# Altium footprint library PcbLib1.pcblib: 48 footprints (part 2 of 3)
Each footprint in its own frame and in the unit in brackets; x right, y up, seen from the top. Pads: shape width x height; smd on the part's side, far side on the other; paste and mask are expansions set on the pad; w line width, h text height; cw(c..) or ccw(c..) is an arc to the next point about the centre after c.
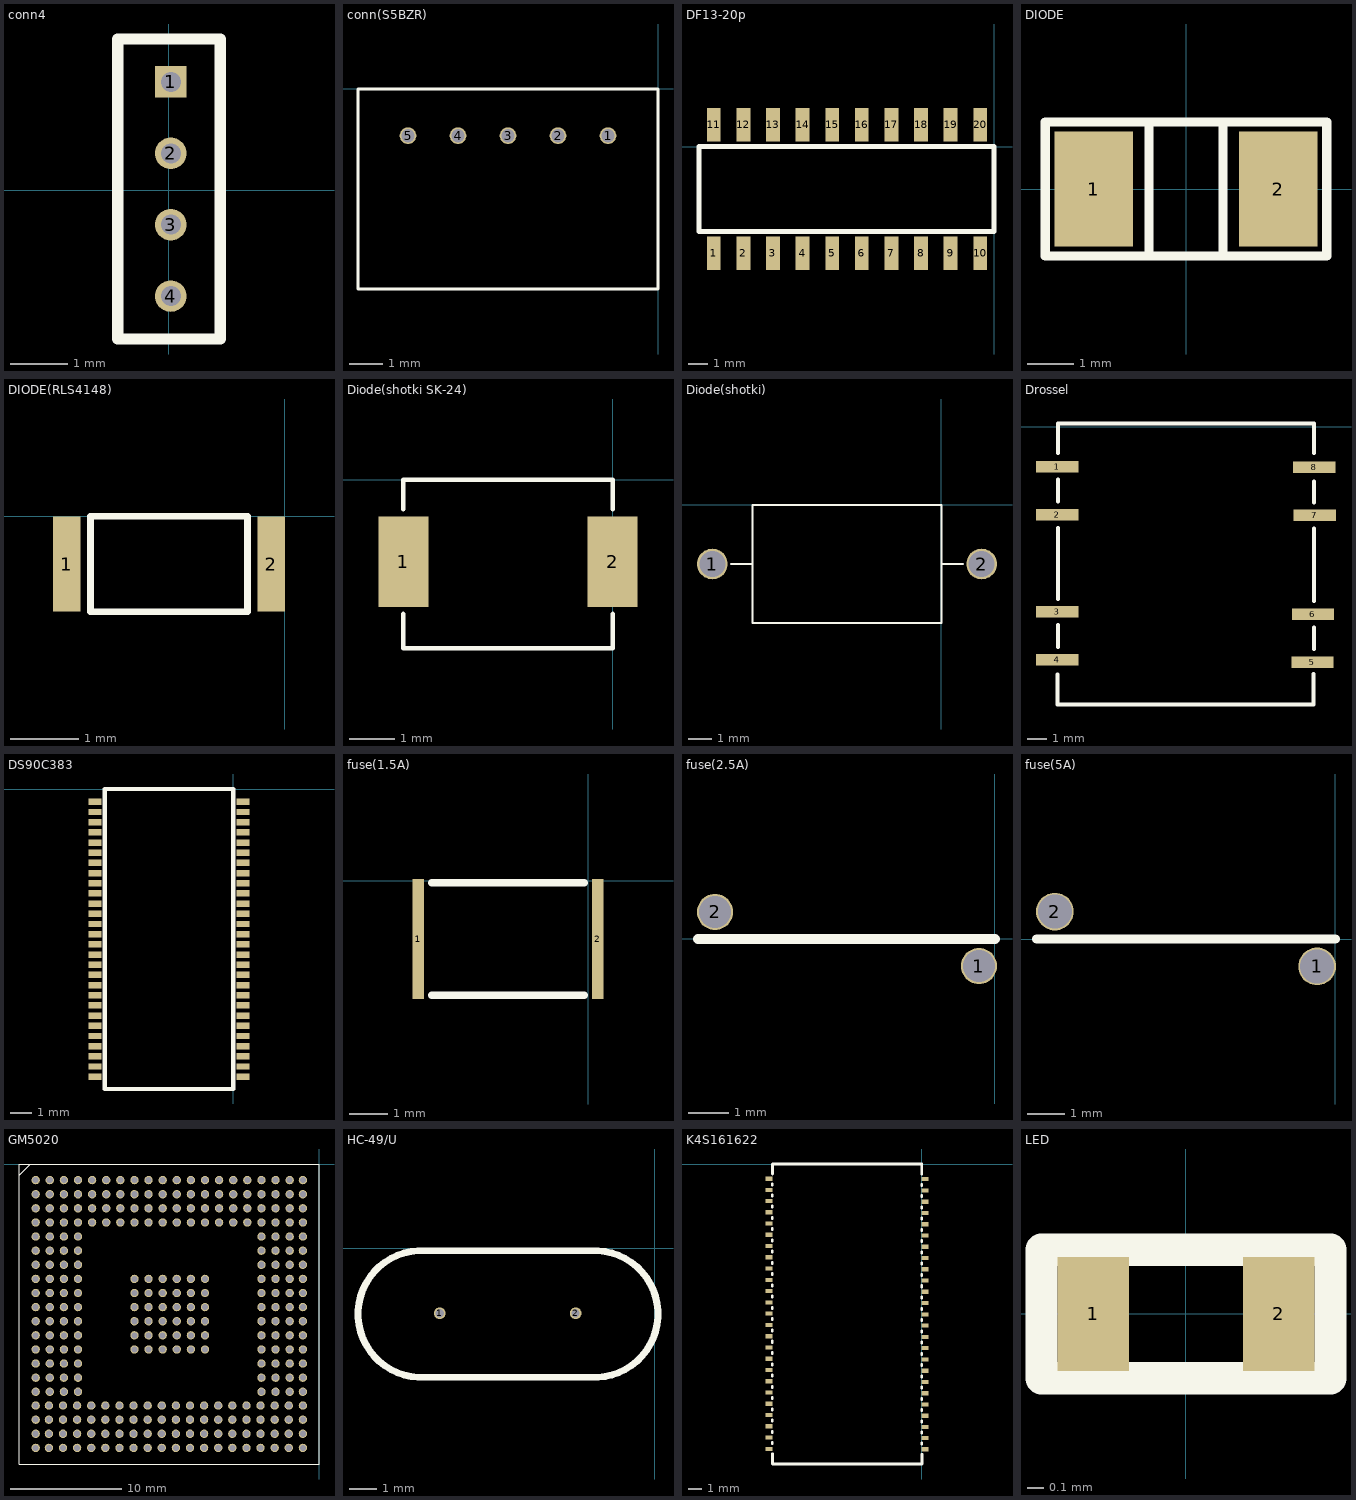
[diagram p1: the footprints below, top view; thin cyan lines are the x and y axes]

## conn4 [mm]
pads (4):
  rect 0.55x0.55 hole 0.35: 1(0.031,1.9)
  round 0.55 hole 0.35: 2(0.031,0.65) 3(0.031,-0.6) 4(0.031,-1.85)
Top Overlay:
  lines w0.2: -0.898,-2.6 0.9,-2.6 0.9,2.65 -0.898,2.65 -0.898,-2.6

## conn(S5BZR) [mm]
pads (5):
  round 0.5 hole 0.4: 1(-1.5,-1.4) 2(-3,-1.4) 3(-4.5,-1.4) 4(-6,-1.4) 5(-7.5,-1.4)
Top Overlay:
  lines w0.1: -9,-6 -9,0 0,0 0,-6 -9,-6

## DF13-20p [mm]
pads (20):
  rect 0.7x1.7 smd: 1(-14.2,-5.4) 2(-12.7,-5.4) 3(-11.2,-5.4) 4(-9.7,-5.4) 5(-8.2,-5.4) 6(-6.7,-5.4) 7(-5.2,-5.4) 8(-3.7,-5.4) 9(-2.2,-5.4) 10(-0.7,-5.4) 11(-14.2,1.1) 12(-12.7,1.1) 13(-11.2,1.1) 14(-9.7,1.1) 15(-8.2,1.1) 16(-6.7,1.1) 17(-5.2,1.1) 18(-3.7,1.1) 19(-2.2,1.1) 20(-0.7,1.1)
Top Overlay:
  lines w0.254: -14.95,-4.3 0,-4.3 0,0 -14.95,0 -14.95,-4.3

## DIODE [mm]
pads (2):
  rect 1.7x2.5 smd: 1(-2,0) 2(2,0)
Top Overlay:
  lines w0.2: -0.8,-1.45 -0.8,1.45 ; 0.8,-1.45 0.8,1.45 ; -3.05,-1.45 3.05,-1.45 3.05,1.45 -3.05,1.45 -3.05,-1.45

## DIODE(RLS4148) [mm]
pads (2):
  rect 0.4x1.4 smd: 1(-3.2,-0.7) 2(-0.2,-0.7)
Top Overlay:
  lines w0.1: -2.85,-1.4 -2.85,0 -0.55,0 -0.55,-1.4 -2.85,-1.4

## Diode(shotki SK-24) [mm]
pads (2):
  rect 1.1x2 smd: 1(-4.6,-1.8) 2(0,-1.8)
Top Overlay:
  lines w0.1: -4.6,-2.95 -4.6,-3.7 0,-3.7 0,-2.95 ; -4.6,-0.65 -4.6,0 0,0 0,-0.65

## Diode(shotki) [mm]
pads (2):
  round 1.3 hole 1.1: 1(-9.7,-2.5) 2(1.7,-2.5)
Top Overlay:
  lines w0.1: -8.9,-2.5 -8,-2.5 ; 0,-2.5 0.9,-2.5 ; -8,-5 -8,0 0,0 0,-5 -8,-5

## Drossel [mm]
pads (8):
  rect 2.2x0.6 smd: 1(3.5,-2.075) 2(3.5,-4.575) 3(3.5,-9.625) 4(3.5,-12.125) 5(16.775,-12.25) 6(16.8,-9.75) 7(16.9,-4.6) 8(16.875,-2.1)
Top Overlay:
  lines w0.2: 3.525,-12.875 3.525,-14.45 16.825,-14.45 16.825,-12.85 ; 3.55,-11.45 3.55,-10.3 ; 3.55,-8.95 3.55,-5.25 ; 3.55,-3.9 3.55,-2.75 ; 3.55,-1.375 3.55,0.175 16.85,0.175 16.85,-1.375 ; 16.85,-11.55 16.85,-10.425 ; 16.85,-9.075 16.85,-5.3 ; 16.85,-3.95 16.85,-2.85

## DS90C383 [mm]
pads (56):
  rect 0.6x0.3 smd mask+0.05: 1(-6.45,-0.6) 2(-6.45,-1.075) 3(-6.45,-1.55) 4(-6.45,-2.025) 5(-6.45,-2.5) 6(-6.45,-2.975) 7(-6.45,-3.45) 8(-6.45,-3.925) 9(-6.45,-4.4) 10(-6.45,-4.875) 11(-6.45,-5.35) 12(-6.45,-5.825) 13(-6.45,-6.3) 14(-6.45,-6.775) 15(-6.45,-7.25) 16(-6.45,-7.725) 17(-6.45,-8.2) 18(-6.45,-8.675) 19(-6.45,-9.15) 20(-6.45,-9.625) 21(-6.45,-10.1) 22(-6.45,-10.575) 23(-6.45,-11.05) 24(-6.45,-11.525) 25(-6.45,-12) 26(-6.45,-12.475) 27(-6.45,-12.95) 28(-6.45,-13.425) 29(0.45,-13.425) 30(0.45,-12.95) 31(0.45,-12.475) 32(0.45,-12) 33(0.45,-11.525) 34(0.45,-11.05) 35(0.45,-10.575) 36(0.45,-10.1) 37(0.45,-9.625) 38(0.45,-9.15) 39(0.45,-8.675) 40(0.45,-8.2) 41(0.45,-7.725) 42(0.45,-7.25) 43(0.45,-6.775) 44(0.45,-6.3) 45(0.45,-5.825) 46(0.45,-5.35) 47(0.45,-4.875) 48(0.45,-4.4) 49(0.45,-3.925) 50(0.45,-3.45) 51(0.45,-2.975) 52(0.45,-2.5) 53(0.45,-2.025) 54(0.45,-1.55) 55(0.45,-1.075) 56(0.45,-0.6)
Top Overlay:
  lines w0.2: -6,-14 0,-14 0,0 -6,0 -6,-14

## fuse(1.5A) [mm]
height 8.2
pads (2):
  rect 0.3x3.1 smd: 1(-4.375,-1.5) 2(0.25,-1.5)
Top Overlay:
  lines w0.2: -4.025,-2.95 -0.1,-2.95 ; -4.025,-0.05 -0.1,-0.05

## fuse(2.5A) [mm]
height 8.2
pads (2):
  round 0.9 hole 0.8: 1(-0.4,-0.675) 2(-6.975,0.675)
Top Overlay:
  lines w0.25: -7.4,0 0,0

## fuse(5A) [mm]
height 8.2
pads (2):
  round 1 hole 0.9: 1(-0.475,-0.725) 2(-7.425,0.725)
Top Overlay:
  lines w0.25: -7.9,0 0,0

## GM5020 [mm]
pads (292):
  round 0.75 hole 0.55: A1(-25.5,-1.45) A2(-24.23,-1.45) A3(-22.96,-1.45) A4(-21.69,-1.45) A5(-20.42,-1.45) A6(-19.15,-1.45) A7(-17.88,-1.45) A8(-16.61,-1.45) A9(-15.34,-1.45) A10(-14.07,-1.45) A11(-12.8,-1.45) A12(-11.53,-1.45) A13(-10.26,-1.45) A14(-8.99,-1.45) A15(-7.72,-1.45) A16(-6.45,-1.45) A17(-5.18,-1.45) A18(-3.91,-1.45) A19(-2.64,-1.45) A20(-1.45,-1.45) B1(-25.5,-2.72) B2(-24.23,-2.72) B3(-22.96,-2.72) B4(-21.69,-2.72) B5(-20.42,-2.72) B6(-19.15,-2.72) B7(-17.88,-2.72) B8(-16.61,-2.72) B9(-15.34,-2.72) B10(-14.07,-2.72) B11(-12.8,-2.72) B12(-11.53,-2.72) B13(-10.26,-2.72) B14(-8.99,-2.72) B15(-7.72,-2.72) B16(-6.45,-2.72) B17(-5.18,-2.72) B18(-3.91,-2.72) B19(-2.64,-2.72) B20(-1.45,-2.72) C1(-25.5,-3.99) C2(-24.23,-3.99) C3(-22.96,-3.99) C4(-21.69,-3.99) C5(-20.42,-3.99) C6(-19.15,-3.99) C7(-17.88,-3.99) C8(-16.61,-3.99) C9(-15.34,-3.99) C10(-14.07,-3.99) C11(-12.8,-3.99) C12(-11.53,-3.99) C13(-10.26,-3.99) C14(-8.99,-3.99) C15(-7.72,-3.99) C16(-6.45,-3.99) C17(-5.18,-3.99) C18(-3.91,-3.99) C19(-2.64,-3.99) C20(-1.45,-3.99) D1(-25.5,-5.26) D2(-24.23,-5.26) D3(-22.96,-5.26) D4(-21.69,-5.26) D5(-20.42,-5.26) D6(-19.15,-5.26) D7(-17.88,-5.26) D8(-16.61,-5.26) D9(-15.34,-5.26) D10(-14.07,-5.26) D11(-12.8,-5.26) D12(-11.53,-5.26) D13(-10.26,-5.26) D14(-8.99,-5.26) D15(-7.72,-5.26) D16(-6.45,-5.26) D17(-5.18,-5.26) D18(-3.91,-5.26) D19(-2.64,-5.26) D20(-1.45,-5.26) E1(-25.5,-6.53) E2(-24.23,-6.53) E3(-22.96,-6.53) E4(-21.69,-6.53) E17(-5.18,-6.53) E18(-3.91,-6.53) E19(-2.64,-6.53) E20(-1.45,-6.53) F1(-25.5,-7.8) F2(-24.23,-7.8) F3(-22.96,-7.8) F4(-21.69,-7.8) F17(-5.18,-7.8) F18(-3.91,-7.8) F19(-2.64,-7.8) F20(-1.45,-7.8) G1(-25.5,-9.07) G2(-24.23,-9.07) G3(-22.96,-9.07) G4(-21.69,-9.07) G17(-5.18,-9.07) G18(-3.91,-9.07) G19(-2.64,-9.07) G20(-1.45,-9.07) H1(-25.5,-10.34) H2(-24.23,-10.34) H3(-22.96,-10.34) H4(-21.69,-10.34) H8(-16.61,-10.34) H9(-15.34,-10.34) H10(-14.07,-10.34) H11(-12.8,-10.34) H12(-11.53,-10.34) H13(-10.26,-10.34) H17(-5.18,-10.34) H18(-3.91,-10.34) H19(-2.64,-10.34) H20(-1.45,-10.34) J1(-25.5,-11.61) J2(-24.23,-11.61) J3(-22.96,-11.61) J4(-21.69,-11.61) J8(-16.61,-11.61) J9(-15.34,-11.61) J10(-14.07,-11.61) J11(-12.8,-11.61) J12(-11.53,-11.61) J13(-10.26,-11.61) J17(-5.18,-11.61) J18(-3.91,-11.61) J19(-2.64,-11.61) J20(-1.45,-11.61) K1(-25.5,-12.88) K2(-24.23,-12.88) K3(-22.96,-12.88) K4(-21.69,-12.88) K8(-16.61,-12.88) K9(-15.34,-12.88) K10(-14.07,-12.88) K11(-12.8,-12.88) K12(-11.53,-12.88) K13(-10.26,-12.88) K17(-5.18,-12.88) K18(-3.91,-12.88) K19(-2.64,-12.88) K20(-1.45,-12.88) L1(-25.5,-14.15) L2(-24.23,-14.15) L3(-22.96,-14.15) L4(-21.69,-14.15) L8(-16.61,-14.15) L9(-15.34,-14.15) L10(-14.07,-14.15) L11(-12.8,-14.15) L12(-11.53,-14.15) L13(-10.26,-14.15) L17(-5.18,-14.15) L18(-3.91,-14.15) L19(-2.64,-14.15) L20(-1.45,-14.15) M1(-25.5,-15.42) M2(-24.23,-15.42) M3(-22.96,-15.42) M4(-21.69,-15.42) M8(-16.61,-15.42) M9(-15.34,-15.42) M10(-14.07,-15.42) M11(-12.8,-15.42) M12(-11.53,-15.42) M13(-10.26,-15.42) M17(-5.18,-15.42) M18(-3.91,-15.42) M19(-2.64,-15.42) M20(-1.45,-15.42) N1(-25.5,-16.69) N2(-24.23,-16.69) N3(-22.96,-16.69) N4(-21.69,-16.69) N8(-16.61,-16.69) N9(-15.34,-16.69) N10(-14.07,-16.69) N11(-12.8,-16.69) N12(-11.53,-16.69) N13(-10.26,-16.69) N17(-5.18,-16.69) N18(-3.91,-16.69) N19(-2.64,-16.69) N20(-1.45,-16.69) P1(-25.5,-17.96) P2(-24.23,-17.96) P3(-22.96,-17.96) P4(-21.69,-17.96) P17(-5.18,-17.96) P18(-3.91,-17.96) P19(-2.64,-17.96) P20(-1.45,-17.96) R1(-25.5,-19.23) R2(-24.23,-19.23) R3(-22.96,-19.23) R4(-21.69,-19.23) R17(-5.18,-19.23) R18(-3.91,-19.23) R19(-2.64,-19.23) R20(-1.45,-19.23) T1(-25.5,-20.5) T2(-24.23,-20.5) T3(-22.96,-20.5) T4(-21.69,-20.5) T17(-5.18,-20.5) T18(-3.91,-20.5) T19(-2.64,-20.5) T20(-1.45,-20.5) U1(-25.5,-21.74) U2(-24.31,-21.74) U3(-23.04,-21.74) U4(-21.77,-21.74) U5(-20.5,-21.74) U6(-19.23,-21.74) U7(-17.96,-21.74) U8(-16.69,-21.74) U9(-15.42,-21.74) U10(-14.15,-21.74) U11(-12.88,-21.74) U12(-11.61,-21.74) U13(-10.34,-21.74) U14(-9.07,-21.74) U15(-7.8,-21.74) U16(-6.53,-21.74) U17(-5.26,-21.74) U18(-3.99,-21.74) U19(-2.72,-21.74) U20(-1.45,-21.74) V1(-25.5,-23.01) V2(-24.31,-23.01) V3(-23.04,-23.01) V4(-21.77,-23.01) V5(-20.5,-23.01) V6(-19.23,-23.01) V7(-17.96,-23.01) V8(-16.69,-23.01) V9(-15.42,-23.01) V10(-14.15,-23.01) V11(-12.88,-23.01) V12(-11.61,-23.01) V13(-10.34,-23.01) V14(-9.07,-23.01) V15(-7.8,-23.01) V16(-6.53,-23.01) V17(-5.26,-23.01) V18(-3.99,-23.01) V19(-2.72,-23.01) V20(-1.45,-23.01) W1(-25.5,-24.28) W2(-24.31,-24.28) W3(-23.04,-24.28) W4(-21.77,-24.28) W5(-20.5,-24.28) W6(-19.23,-24.28) W7(-17.96,-24.28) W8(-16.69,-24.28) W9(-15.42,-24.28) W10(-14.15,-24.28) W11(-12.88,-24.28) W12(-11.61,-24.28) W13(-10.34,-24.28) W14(-9.07,-24.28) W15(-7.8,-24.28) W16(-6.53,-24.28) W17(-5.26,-24.28) W18(-3.99,-24.28) W19(-2.72,-24.28) W20(-1.45,-24.28) Y1(-25.5,-25.55) Y2(-24.31,-25.55) Y3(-23.04,-25.55) Y4(-21.77,-25.55) Y5(-20.5,-25.55) Y6(-19.23,-25.55) Y7(-17.96,-25.55) Y8(-16.69,-25.55) Y9(-15.42,-25.55) Y10(-14.15,-25.55) Y11(-12.88,-25.55) Y12(-11.61,-25.55) Y13(-10.34,-25.55) Y14(-9.07,-25.55) Y15(-7.8,-25.55) Y16(-6.53,-25.55) Y17(-5.26,-25.55) Y18(-3.99,-25.55) Y19(-2.72,-25.55) Y20(-1.45,-25.55)
Top Overlay:
  lines w0.1: -27,-1 -26,0 -25.75,0 ; -27,-27 0,-27 0,0 -27,0 -27,-27

## HC-49/U [mm]
height 8.2
pads (2):
  round 0.43 hole 0.3: 1(-7.9,-2.4) 2(-2.9,-2.4)
Top Overlay:
  lines w0.254: -8.7,-4.75 cw(c-8.575,-2.425) -8.7,-0.1 -2.073,-0.1 cw(c-2.2,-2.425) -2.073,-4.75 -8.7,-4.75

## K4S161622 [mm]
pads (50):
  rect 0.5x0.3 smd: 1(-11.024,-1.067) 2(-11.024,-1.867) 3(-11.024,-2.667) 4(-11.024,-3.48) 5(-11.024,-4.293) 6(-11.024,-5.105) 7(-11.024,-5.918) 8(-11.024,-6.731) 9(-11.024,-7.544) 10(-11.024,-8.357) 11(-11.024,-9.169) 12(-11.024,-9.982) 13(-11.024,-10.795) 14(-11.024,-11.608) 15(-11.024,-12.421) 16(-11.024,-13.233) 17(-11.024,-14.046) 18(-11.024,-14.859) 19(-11.024,-15.672) 20(-11.024,-16.485) 21(-11.024,-17.297) 22(-11.024,-18.11) 23(-11.024,-18.923) 24(-11.024,-19.736) 25(-11.024,-20.549) 26(0.254,-20.574) 27(0.254,-19.774) 28(0.254,-18.974) 29(0.254,-18.161) 30(0.254,-17.348) 31(0.254,-16.535) 32(0.254,-15.723) 33(0.254,-14.91) 34(0.254,-14.097) 35(0.254,-13.284) 36(0.254,-12.471) 37(0.254,-11.659) 38(0.254,-10.846) 39(0.254,-10.033) 40(0.254,-9.22) 41(0.254,-8.407) 42(0.254,-7.595) 43(0.254,-6.782) 44(0.254,-5.969) 45(0.254,-5.156) 46(0.254,-4.343) 47(0.254,-3.531) 48(0.254,-2.718) 49(0.254,-1.905) 50(0.254,-1.092)
Top Overlay:
  lines w0.2: -10.77,-20.183 -10.77,-20.091 ; -10.77,-19.37 -10.77,-19.279 ; -10.77,-18.557 -10.77,-18.466 ; -10.77,-17.745 -10.77,-17.653 ; -10.77,-16.932 -10.77,-16.84 ; -10.77,-16.119 -10.77,-16.027 ; -10.77,-15.306 -10.77,-15.215 ; -10.77,-14.493 -10.77,-14.402 ; -10.77,-13.681 -10.77,-13.589 ; -10.77,-12.868 -10.77,-12.776 ; -10.77,-12.055 -10.77,-11.963 ; -10.77,-11.242 -10.77,-11.151 ; -10.77,-10.429 -10.77,-10.338 ; -10.77,-9.617 -10.77,-9.525 ; -10.77,-8.804 -10.77,-8.712 ; -10.77,-7.991 -10.77,-7.899 ; -10.77,-7.178 -10.77,-7.087 ; -10.77,-6.365 -10.77,-6.274 ; -10.77,-5.553 -10.77,-5.461 ; -10.77,-4.74 -10.77,-4.648 ; -10.77,-3.927 -10.77,-3.835 ; -10.77,-3.114 -10.77,-3.023 ; -10.77,-2.311 -10.77,-2.22 ; -10.77,-1.514 -10.77,-1.422 ; -10.76,-21.629 -10.76,-20.904 ; -10.76,-0.725 -10.76,0 0,0 0,-0.725 ; -10.744,-21.641 0.016,-21.641 ; 0,-20.218 0,-20.127 ; 0,-19.421 0,-19.329 ; 0,-18.618 0,-18.527 ; 0,-17.805 0,-17.714 ; 0,-16.993 0,-16.901 ; 0,-16.18 0,-16.088 ; 0,-15.367 0,-15.275 ; 0,-14.554 0,-14.463 ; 0,-13.741 0,-13.65 ; 0,-12.929 0,-12.837 ; 0,-12.116 0,-12.024 ; 0,-11.303 0,-11.211 ; 0,-10.49 0,-10.399 ; 0,-9.677 0,-9.586 ; 0,-8.865 0,-8.773 ; 0,-8.052 0,-7.96 ; 0,-7.239 0,-7.147 ; 0,-6.426 0,-6.335 ; 0,-5.613 0,-5.522 ; 0,-4.801 0,-4.709 ; 0,-3.988 0,-3.896 ; 0,-3.175 0,-3.083 ; 0,-2.362 0,-2.271 ; 0,-1.549 0,-1.458 ; 0.025,-21.629 0.025,-20.93

## LED [mil]
pads (2):
  rect 17.5x28 smd paste+0 mask+0: 1(-22.75,0) 2(22.75,0)
Top Overlay:
  lines w7.87: -35.43,-15.75 35.43,-15.75 35.43,15.75 -35.43,15.75 -35.43,-15.75